# EAGLE library part SWITCH_6 (library lib_paul)
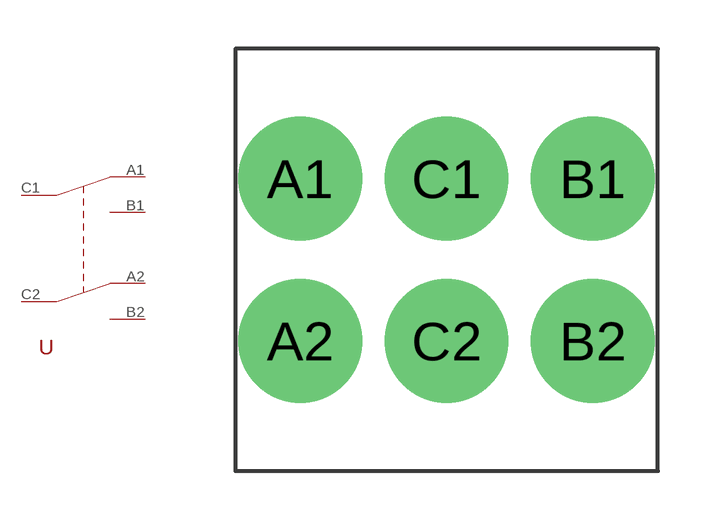
[diagram p25: symbol with the pads of SWITCH_6; footprint SWITCH_6]

Designator prefix -

## SWITCH_6  [SWITCH_6]
A1  A1
A2  A2
B1  B1
B2  B2
C1  C1
C2  C2

## Footprint SWITCH_6 (pad centres in mm)
drill 2.2 pad 3.81 round: A1 -4.5,2.5; A2 -4.5,-2.5; B1 4.5,2.5; B2 4.5,-2.5; C1 0,2.5; C2 0,-2.5